# EAGLE library part USB-MICROB (library lbrzak)
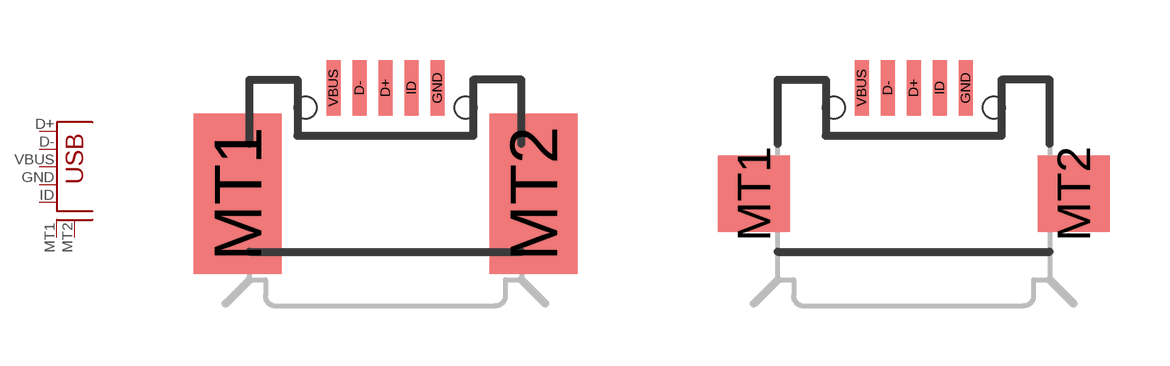
[diagram p2: symbol with the pads of USB-MICROB_LARGEPAD; footprints USB-MICROB_LARGEPAD, USB-MICROB]

Designator prefix -

## USB-MICROBLARGEPAD  [USB-MICROB_LARGEPAD]
D+  D+
D-  D-
GND  GND
ID  ID
MT1  SHEILD1
MT2  SHEILD2
VBUS  VBUS

## USB-MICROBNORMAL  [USB-MICROB]
Pads as for USB-MICROB_LARGEPAD

## Footprint USB-MICROB_LARGEPAD (pad centres in mm)
smd 0.35 x 1.4: D+ 0,2.65; D- -0.65,2.65; GND 1.3,2.65; ID 0.65,2.65; VBUS -1.3,2.65
smd 2.2 x 4: MT1 -3.7,0; MT2 3.7,0
hole 0.55 at -2,2.15
hole 0.55 at 2,2.15

## Footprint USB-MICROB (pad centres in mm)
smd 0.35 x 1.4: D+ 0,2.65; D- -0.65,2.65; GND 1.3,2.65; ID 0.65,2.65; VBUS -1.3,2.65
smd 1.8 x 1.9: MT1 -4,0; MT2 4,0
hole 0.55 at -2,2.15
hole 0.55 at 2,2.15